# EAGLE library part 66201021122 (library Wuerth_Elektronik_eiCan_08_Micro_Power_Connectors)
WR-MPC3 3.00mm Male Dual Row Vertical Header, 10 Pins
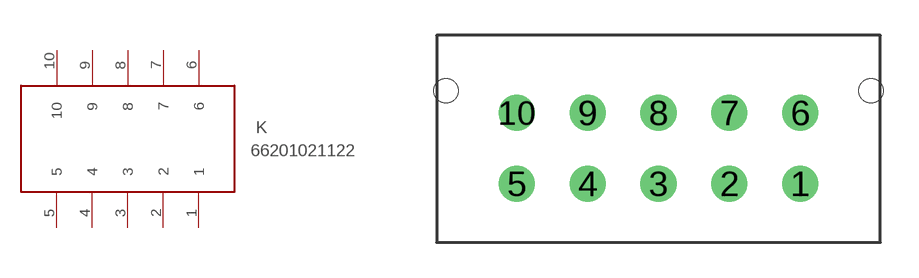
[diagram p2: symbol with the pads of 66201021122; footprint 66201021122]

Designator prefix K

## 66201021122  [66201021122]
1  1
2  2
3  3
4  4
5  5
6  6
7  7
8  8
9  9
10  10

## Footprint 66201021122 (pad centres in mm)
WR-MPC3-3.00mm Male Dual Row Vertical Header,10 pins
drill 1.02 round: 1 0,-1.5; 2 -3,-1.5; 3 -6,-1.5; 4 -9,-1.5; 5 -12,-1.5; 6 0,1.5; 7 -3,1.5; 8 -6,1.5; 9 -9,1.5; 10 -12,1.5
hole 1.02 at -15,2.44
hole 1.02 at 3,2.44